# Altium schematic symbol library Schlib2.SchLib: 92 symbols (part 4 of 4)
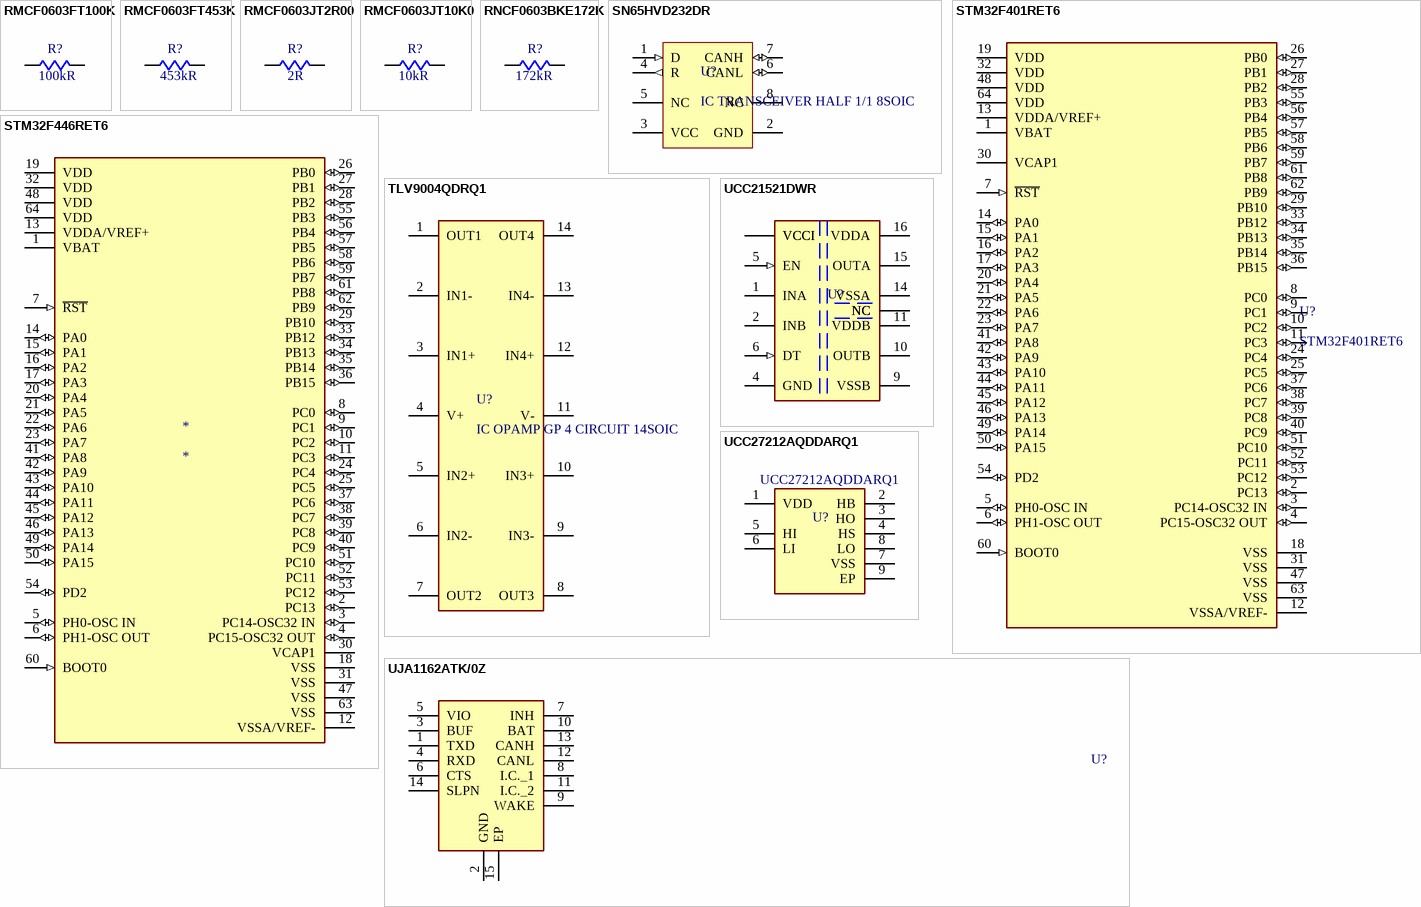
[diagram p5: symbols RMCF0603FT100K to UJA1162ATK/0Z]

## STM32F401RET6
designator U?
RISC Microcontroller, 32-Bit, FLASH, 84MHz, CMOS, PQFP64; Manufacturer: STMicroelectronics; Supplier: Digi-Key; Supplier Part Number: 497-17429-ND; Manufacturer Part Number: STM32F401RET6; RoHS: Yes; Category: Microcontrollers; Stock: 307; Pricing: 1=8.73, 10=7.883, 25=7.5164, 160=6.52638, 320=6.23303, 480=5.68306, 960=5.23785 (USD); Technology: CMOS; Reach SVHC Compliant: Yes; RoHS Compliant: Yes; ComponentLink1URL: https://datasheet.ciiva.com:443/pdfs/VipMasterIC/IC/SGST/SGST-S-A0002228211/SGST-S-A0002228211-1.pdf?src-supplier=IHS+Markit; ComponentLink1Description: https://datasheet.ciiva.com:443/pdfs/VipMasterIC/IC/SGST/SGST-S-A0002228211/SGST-S-A0002228211-1.pdf?src-supplier=IHS+Markit; ComponentLink2URL: http://www.mouser.com/ds/2/389/stm32f401re-956236.pdf?src-supplier=Mouser; ComponentLink2Description: http://www.mouser.com/ds/2/389/stm32f401re-956236.pdf?src-supplier=Mouser; ComponentLink3URL: http://www.farnell.com/datasheets/1899788.pdf?src-supplier=Farnell; ComponentLink3Description: http://www.farnell.com/datasheets/1899788.pdf?src-supplier=Farnell; ComponentLink4URL: http://www.st.com/st-web-ui/static/active/en/resource/technical/document/datasheet/DM00102166.pdf?src-supplier=Avnet; ComponentLink4Description: http://www.st.com/st-web-ui/static/active/en/resource/technical/document/datasheet/DM00102166.pdf?src-supplier=Avnet; ComponentLink5URL: http://www.farnell.com/datasheets/1899788.pdf?src-supplier=Element14; ComponentLink5Description: http://www.farnell.com/datasheets/1899788.pdf?src-supplier=Element14; ComponentLink6URL: http://www.st.com/content/ccc/resource/technical/document/errata_sheet/df/f5/fd/26/37/db/42/2b/DM00095523.pdf/files/DM00095523.pdf/jcr:content/translations/en.DM00095523.pdf?src-supplier=Digi-Key; ComponentLink6Description: http://www.st.com/content/ccc/resource/technical/document/errata_sheet/df/f5/fd/26/37/db/42/2b/DM00095523.pdf/files/DM00095523.pdf/jcr:content/translations/en.DM00095523.pdf?src-supplier=Digi-Key; ComponentLink7URL: http://www.farnell.com/datasheets/1899788.pdf?src-supplier=Newark; ComponentLink7Description: http://www.farnell.com/datasheets/1899788.pdf?src-supplier=Newark
footprint FP-LQFP64-5W-IPC_B
pins: 1 VBAT (power), 2 PC13 (io), 3 PC14-OSC32 IN (io), 4 PC15-OSC32 OUT (io), 5 PH0-OSC IN (io), 6 PH1-OSC OUT (io), 7 ~{RST} (in), 8 PC0 (io), 9 PC1 (io), 10 PC2 (io), 11 PC3 (io), 12 VSSA/VREF- (power), 13 VDDA/VREF+ (power), 14 PA0 (io), 15 PA1 (io), 16 PA2 (io), 17 PA3 (io), 18 VSS (power), 19 VDD (power), 20 PA4 (io), 21 PA5 (io), 22 PA6 (io), 23 PA7 (io), 24 PC4 (io), 25 PC5 (io), 26 PB0 (io), 27 PB1 (io), 28 PB2 (io), 29 PB10 (io), 30 VCAP1 (power), 31 VSS (power), 32 VDD (power), 33 PB12 (io), 34 PB13 (io), 35 PB14 (io), 36 PB15 (io), 37 PC6 (io), 38 PC7 (io), 39 PC8 (io), 40 PC9 (io), 41 PA8 (io), 42 PA9 (io), 43 PA10 (io), 44 PA11 (io), 45 PA12 (io), 46 PA13 (io), 47 VSS (power), 48 VDD (power), 49 PA14 (io), 50 PA15 (io), 51 PC10 (io), 52 PC11 (io), 53 PC12 (io), 54 PD2 (io), 55 PB3 (io), 56 PB4 (io), 57 PB5 (io), 58 PB6 (io), 59 PB7 (io), 60 BOOT0 (in), 61 PB8 (io), 62 PB9 (io), 63 VSS (power), 64 VDD (power)

## STM32F446RET6
designator *
Parallel - Fundamental Quartz Crystal, 48MHz Nom; Manufacturer: STMicroelectronics; Manufacturer Part Number: STM32F446RET6; Package Body Material: Plastic; Package Equivalence Code: QFP64,.47SQ,20; Power Supplies: 1.8/3.3V; Speed: 180RPM; Max Supply Current: 115mA; Qualification Status: Not Qualified; Drive Level: 10uW; Load Capacitance: 8pF; Operating Frequency-Nom: 480; ESR: 50R; Supplier: Digi-Key; Supplier Part Number: 497-15376-ND; RoHS: Yes; Category: Microcontrollers; Stock: 18601; Pricing: 1=11.57, 10=10.456, 25=9.9696, 160=8.65644, 320=8.26741, 480=7.53794, 960=6.9474 (USD); Case/Package: QFP; Pins: 64; Package Shape: Square; Min Operating Temperature: -40°C; Max Operating Temperature: 85°C; JESD-30 Code: S-PQFP-G64; Package Style: FLATPACKMeter; Surface Mount: Yes; Technology: CMOS; Terminal Form: Gull Wing; Terminal Position: QUAD; Terminal Pitch: 0.5mm; Temperature Grade: INDUSTRIAL; Reach SVHC Compliant: Yes; RoHS Compliant: Yes; ComponentLink1URL: https://datasheet.ciiva.com:443/pdfs/VipMasterIC/IC/SGST/SGST-S-A0000954157/SGST-S-A0000954273-1.pdf?src-supplier=IHS+Markit; ComponentLink1Description: https://datasheet.ciiva.com:443/pdfs/VipMasterIC/IC/SGST/SGST-S-A0000954157/SGST-S-A0000954273-1.pdf?src-supplier=IHS+Markit; ComponentLink2URL: http://www.mouser.com/ds/2/389/stm32f446mc-956216.pdf?src-supplier=Mouser; ComponentLink2Description: http://www.mouser.com/ds/2/389/stm32f446mc-956216.pdf?src-supplier=Mouser; ComponentLink3URL: http://www.farnell.com/datasheets/2309063.pdf?src-supplier=Farnell; ComponentLink3Description: http://www.farnell.com/datasheets/2309063.pdf?src-supplier=Farnell; ComponentLink4URL: http://www.farnell.com/datasheets/2309063.pdf?src-supplier=Element14; ComponentLink4Description: http://www.farnell.com/datasheets/2309063.pdf?src-supplier=Element14; ComponentLink5URL: http://www.st.com/content/ccc/resource/technical/document/datasheet/65/cb/75/50/53/d6/48/24/DM00141306.pdf/files/DM00141306.pdf/jcr:content/translations/en.DM00141306.pdf?src-supplier=Digi-Key; ComponentLink5Description: http://www.st.com/content/ccc/resource/technical/document/datasheet/65/cb/75/50/53/d6/48/24/DM00141306.pdf/files/DM00141306.pdf/jcr:content/translations/en.DM00141306.pdf?src-supplier=Digi-Key; ComponentLink6URL: http://www.farnell.com/datasheets/2309063.pdf?src-supplier=Newark; ComponentLink6Description: http://www.farnell.com/datasheets/2309063.pdf?src-supplier=Newark; Mounting Technology: Surface Mount; Crystal/Resonator Type: PARALLEL - FUNDAMENTAL; ComponentLink7URL: https://datasheet.ciiva.com:443/pdfs/VipMasterIC/IC/KNSK/KNSK-S-A0000083226/KNSK-S-A0000083226-1.pdf?src-supplier=IHS+Markit; ComponentLink7Description: https://datasheet.ciiva.com:443/pdfs/VipMasterIC/IC/KNSK/KNSK-S-A0000083226/KNSK-S-A0000083226-1.pdf?src-supplier=IHS+Markit; ComponentLink8URL: https://media.digikey.com/pdf/Data%20Sheets/AVX%20PDFs/CX3225SB48000D0FPJC1.pdf?src-supplier=Digi-Key; ComponentLink8Description: https://media.digikey.com/pdf/Data%20Sheets/AVX%20PDFs/CX3225SB48000D0FPJC1.pdf?src-supplier=Digi-Key; ComponentLink9URL: http://www.farnell.com/datasheets/1881871.pdf?src-supplier=Farnell; ComponentLink9Description: http://www.farnell.com/datasheets/1881871.pdf?src-supplier=Farnell; ComponentLink10URL: http://www.mouser.com/ds/2/40/cx3225sb_gps_e-1076360.pdf?src-supplier=Mouser; ComponentLink10Description: http://www.mouser.com/ds/2/40/cx3225sb_gps_e-1076360.pdf?src-supplier=Mouser; ComponentLink11URL: http://www.farnell.com/datasheets/1881871.pdf?src-supplier=Element14; ComponentLink11Description: http://www.farnell.com/datasheets/1881871.pdf?src-supplier=Element14; ComponentLink12URL: http://www.kyocera-crystal.jp/eng/wp-content/uploads/2014/12/cx3225sb_e.pdf?src-supplier=Avnet; ComponentLink12Description: http://www.kyocera-crystal.jp/eng/wp-content/uploads/2014/12/cx3225sb_e.pdf?src-supplier=Avnet
footprint FP-LQFP64-5W-IPC_B
pins: 1 VBAT (power), 2 PC13 (io), 3 PC14-OSC32 IN (io), 4 PC15-OSC32 OUT (io), 5 PH0-OSC IN (io), 6 PH1-OSC OUT (io), 7 ~{RST} (in), 8 PC0 (io), 9 PC1 (io), 10 PC2 (io), 11 PC3 (io), 12 VSSA/VREF- (power), 13 VDDA/VREF+ (power), 14 PA0 (io), 15 PA1 (io), 16 PA2 (io), 17 PA3 (io), 18 VSS (power), 19 VDD (power), 20 PA4 (io), 21 PA5 (io), 22 PA6 (io), 23 PA7 (io), 24 PC4 (io), 25 PC5 (io), 26 PB0 (io), 27 PB1 (io), 28 PB2 (io), 29 PB10 (io), 30 VCAP1 (power), 31 VSS (power), 32 VDD (power), 33 PB12 (io), 34 PB13 (io), 35 PB14 (io), 36 PB15 (io), 37 PC6 (io), 38 PC7 (io), 39 PC8 (io), 40 PC9 (io), 41 PA8 (io), 42 PA9 (io), 43 PA10 (io), 44 PA11 (io), 45 PA12 (io), 46 PA13 (io), 47 VSS (power), 48 VDD (power), 49 PA14 (io), 50 PA15 (io), 51 PC10 (io), 52 PC11 (io), 53 PC12 (io), 54 PD2 (io), 55 PB3 (io), 56 PB4 (io), 57 PB5 (io), 58 PB6 (io), 59 PB7 (io), 60 BOOT0 (in), 61 PB8 (io), 62 PB9 (io), 63 VSS (power), 64 VDD (power)

## TLV9004QDRQ1
designator U?, comment IC OPAMP GP 4 CIRCUIT 14SOIC
footprint SOIC127P600X175-14N
pins: 1 OUT1, 2 IN1-, 3 IN1+, 4 V+, 5 IN2+, 6 IN2-, 7 OUT2, 8 OUT3, 9 IN3-, 10 IN3+, 11 V-, 12 IN4+, 13 IN4-, 14 OUT4

## UCC21521DWR
designator U?, comment DGTL ISO 5.7KV GATE DRVR 16SOIC  (value not drawn)
Manufacturer: Texas Instruments; Manufacturer Part Number: UCC21521DWR; Interface IC Type: BUFFER OR INVERTER BASED PERIPHERAL DRIVER; Supplier: Digi-Key; Supplier Part Number: 296-48797-1-ND; RoHS: Yes; Category: Gate Drivers; Stock: 5950; Pricing: 1=4.55, 10=4.089, 25=3.8656, 100=3.3502, 250=3.17836, 500=2.85194, 1000=2.40526 (USD); Terminal Finish: Nickel; JESD-609 Code: e4; Moisture Sensitivity Level: 2; Reach SVHC Compliant: Yes; RoHS Compliant: Yes; ComponentLink1URL: https://www.ti.com:443/lit/ds/symlink/ucc21521.pdf?src-supplier=IHS+Markit; ComponentLink1Description: https://www.ti.com:443/lit/ds/symlink/ucc21521.pdf?src-supplier=IHS+Markit; ComponentLink2URL: http://www.ti.com/lit/ds/symlink/ucc21521.pdf?src-supplier=Digi-Key; ComponentLink2Description: http://www.ti.com/lit/ds/symlink/ucc21521.pdf?src-supplier=Digi-Key
footprint FP-DW0016B-IPC_B
pins: 1 INA (hiz), 2 INB (hiz), 3 VCCI (power), 4 GND (power), 5 EN (in), 6 DT (in), 7 NC, 8 VCCI (power), 9 VSSB (power), 10 OUTB, 11 VDDB (power), 12 NC, 13 NC, 14 VSSA (power), 15 OUTA, 16 VDDA (power)

## UCC27212AQDDARQ1
designator U?, comment Manufacturer Part Number: UCC27212AQDDARQ1  (hidden comment: IC GATE DRVR HALF-BRIDGE 8SOPWR)
Manufacturer: Texas Instruments; Interface IC Type: HALF BRIDGE BASED MOSFET DRIVER; Supplier: Digi-Key; Supplier Part Number: 296-48223-1-ND; RoHS: Yes; Category: Integrated Circuits (ICs); Stock: 4685; Pricing: 1=4.89, 10=4.39, 25=4.1508, 100=3.5972, 250=3.41276, 500=3.06226, 1000=2.58262 (USD); Moisture Sensitivity Level: 2; Reach SVHC Compliant: Yes; RoHS Compliant: Yes; ComponentLink1URL: https://www.ti.com:443/lit/ds/symlink/ucc27212a-q1.pdf?src-supplier=IHS+Markit; ComponentLink1Description: https://www.ti.com:443/lit/ds/symlink/ucc27212a-q1.pdf?src-supplier=IHS+Markit; ComponentLink2URL: http://www.ti.com/lit/ds/symlink/ucc27212a-q1.pdf?src-supplier=Digi-Key; ComponentLink2Description: http://www.ti.com/lit/ds/symlink/ucc27212a-q1.pdf?src-supplier=Digi-Key; Pins: 2; Resistor Type: FIXED RESISTOR; ComponentLink3URL: https://datasheet.ciiva.com:443/pdfs/VipMasterIC/IC/SEIE/SEIE-S-A0007989777/SEIE-S-A0007989777-1.pdf?src-supplier=IHS+Markit; ComponentLink3Description: https://datasheet.ciiva.com:443/pdfs/VipMasterIC/IC/SEIE/SEIE-S-A0007989777/SEIE-S-A0007989777-1.pdf?src-supplier=IHS+Markit; ComponentLink4URL: http://www.seielect.com/catalog/sei-hcs.pdf?src-supplier=Digi-Key; ComponentLink4Description: http://www.seielect.com/catalog/sei-hcs.pdf?src-supplier=Digi-Key; ComponentLink5URL: https://www.seielect.com/catalog/SEI-Packaging.pdf?src-supplier=Digi-Key; ComponentLink5Description: https://www.seielect.com/catalog/SEI-Packaging.pdf?src-supplier=Digi-Key
footprint SOIC127P600X170-9N
pins: 1 VDD, 2 HB, 3 HO, 4 HS, 5 HI, 6 LI, 7 VSS, 8 LO, 9 EP

## UJA1162ATK/0Z
designator U?, comment IC TRANSCEIVER 1/1 CANbus 14HVSON  (value not drawn)
Manufacturer: NXP Semiconductors; Manufacturer Part Number: UJA1162ATK/0Z; Supplier: Digi-Key; Supplier Part Number: 568-UJA1162ATK/0ZCT-ND; RoHS: No; Stock: 20925; Pricing: 1=3.02, 10=2.711, 25=2.5632, 100=2.2214, 250=2.10748, 500=1.89104, 1000=1.59485, 2500=1.51511 (USD)
footprint SON65P300X450X100-15N
pins: 1 TXD, 2 GND, 3 BUF, 4 RXD, 5 VIO, 6 CTS, 7 INH, 8 I.C._1, 9 WAKE, 10 BAT, 11 I.C._2, 12 CANL, 13 CANH, 14 SLPN, 15 EP